# Altium footprint library sunalsorises.PcbLib: 7 footprints
Each footprint in its own frame and in the unit in brackets; x right, y up, seen from the top. Pads: shape width x height; smd on the part's side, far side on the other; paste and mask are expansions set on the pad; w line width, h text height; cw(c..) or ccw(c..) is an arc to the next point about the centre after c.
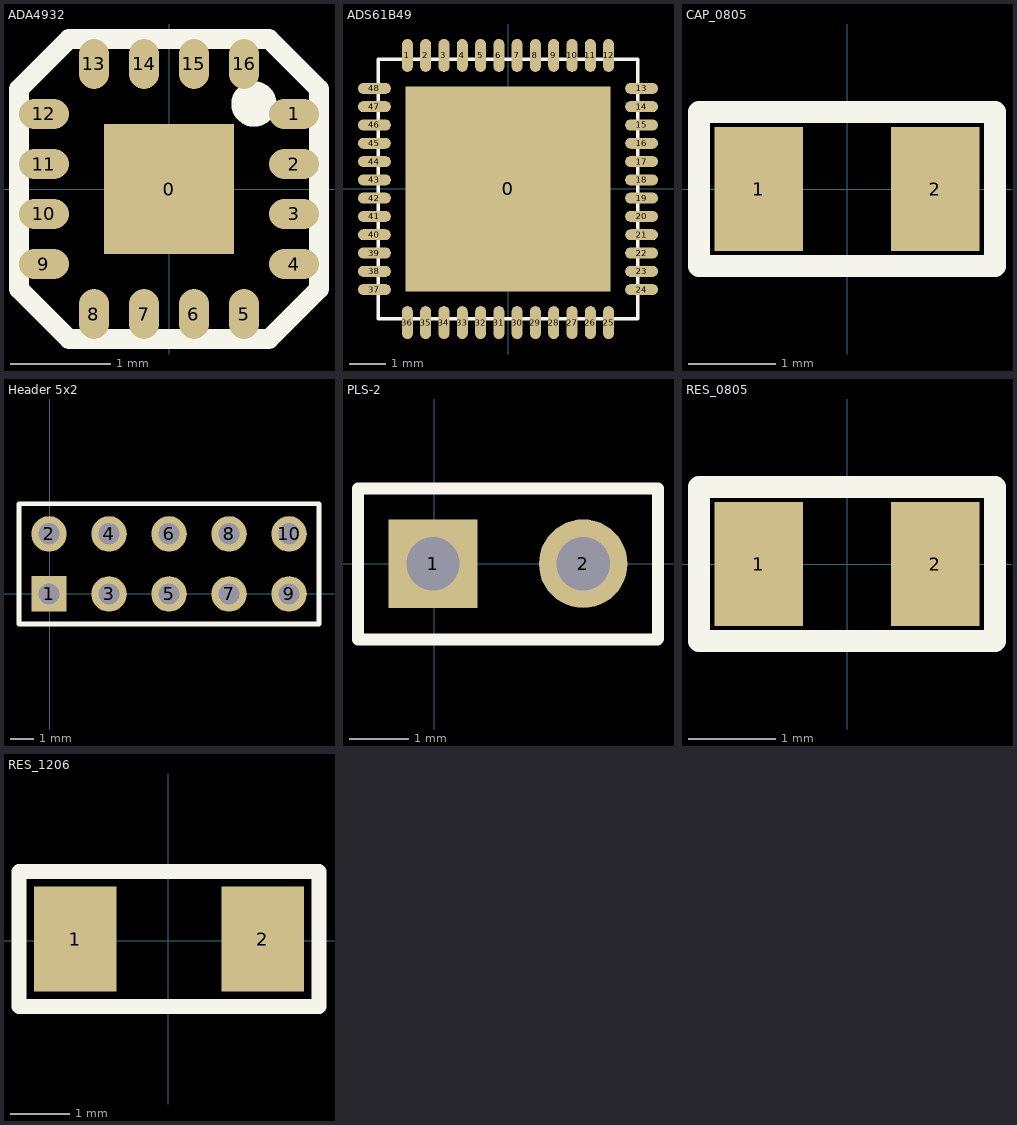
[diagram p0: the footprints below, top view; thin cyan lines are the x and y axes]

## ADA4932 [mm]
pads (17):
  rect 1.3x1.3 smd: 0(0,0)
  oval 0.5x0.3 smd: 1(1.25,0.75) 2(1.25,0.25) 3(1.25,-0.25) 4(1.25,-0.75) 9(-1.25,-0.75) 10(-1.25,-0.25) 11(-1.25,0.25) 12(-1.25,0.75)
  oval 0.3x0.5 smd: 5(0.75,-1.25) 6(0.25,-1.25) 7(-0.25,-1.25) 8(-0.75,-1.25) 13(-0.75,1.25) 14(-0.25,1.25) 15(0.25,1.25) 16(0.75,1.25)
Top Overlay:
  circle w0.254: c0.85,0.85 r0.1
  lines w0.2: -1.5,-1 -1,-1.5 1,-1.5 1.5,-1 1.5,1 1,1.5 -1,1.5 -1.5,1 -1.5,-1
3D body: height 0.9, standoff 0, extent -1.52,-1.52 1.52,1.52

## ADS61B49 [mm]
pads (49):
  rect 5.6x5.6 smd: 0(0,0)
  oval 0.3x0.9 smd: 1(-2.75,3.65) 2(-2.25,3.65) 3(-1.75,3.65) 4(-1.25,3.65) 5(-0.75,3.65) 6(-0.25,3.65) 7(0.25,3.65) 8(0.75,3.65) 9(1.25,3.65) 10(1.75,3.65) 11(2.25,3.65) 12(2.75,3.65) 25(2.75,-3.65) 26(2.25,-3.65) 27(1.75,-3.65) 28(1.25,-3.65) 29(0.75,-3.65) 30(0.25,-3.65) 31(-0.25,-3.65) 32(-0.75,-3.65) 33(-1.25,-3.65) 34(-1.75,-3.65) 35(-2.25,-3.65) 36(-2.75,-3.65)
  oval 0.9x0.3 smd: 13(3.65,2.75) 14(3.65,2.25) 15(3.65,1.75) 16(3.65,1.25) 17(3.65,0.75) 18(3.65,0.25) 19(3.65,-0.25) 20(3.65,-0.75) 21(3.65,-1.25) 22(3.65,-1.75) 23(3.65,-2.25) 24(3.65,-2.75) 37(-3.65,-2.75) 38(-3.65,-2.25) 39(-3.65,-1.75) 40(-3.65,-1.25) 41(-3.65,-0.75) 42(-3.65,-0.25) 43(-3.65,0.25) 44(-3.65,0.75) 45(-3.65,1.25) 46(-3.65,1.75) 47(-3.65,2.25) 48(-3.65,2.75)
Top Overlay:
  lines w0.1: -3.55,-3.55 -3.55,3.55 3.55,3.55 3.55,-3.55 -3.55,-3.55
3D body: height 0.83, standoff -0.02, extent -3.505,-3.505 3.505,3.5

## CAP_0805 [mil]
pads (2):
  rect 40x56 smd: 1(-40,0) 2(40,0)
Top Overlay:
  lines w10: -67,-35 67,-35 67,35 -67,35 -67,-35
3D body: height 23.62, standoff 0, extent -39.36,-24.6 39.38,24.61

## Header 5x2 [mm]
pads (10):
  rect 1.5x1.5 hole 0.9: 1(-0.025,0)
  round 1.5 hole 0.9: 2(-0.025,2.54) 3(2.515,0) 4(2.515,2.54) 5(5.055,0) 6(5.055,2.54) 7(7.595,0) 8(7.595,2.54) 9(10.135,0) 10(10.135,2.54)
Top Overlay:
  lines w0.2: 11.4,-1.28 11.4,3.8 ; 11.4,-1.27 -1.295,-1.27 -1.295,3.81 11.4,3.81
3D body: height 8.38, standoff -2.54, extent -1.275,-1.265 11.425,3.815

## PLS-2 [mm]
pads (2):
  rect 1.5x1.5 hole 0.9: 1(-0.02,0)
  round 1.5 hole 0.9: 2(2.52,0)
Top Overlay:
  lines w0.2: -1.29,-1.28 3.775,-1.28 ; -1.29,-1.27 -1.29,1.27 3.775,1.27 ; 3.785,-1.27 3.785,1.27
3D body: height 8.54, standoff -3, extent -1.29,-1.3 3.79,1.24

## RES_0805 [mil]
pads (2):
  rect 40x56 smd: 1(-40,0) 2(40,0)
Top Overlay:
  lines w10: -67,-35 -67,35 67,35 67,-35 -67,-35
3D body: height 29.92, standoff 0, extent -45.27,-26.57 45.28,26.58

## RES_1206 [mil]
pads (2):
  rect 55x70 smd: 1(-62.03,1.02) 2(62.97,1.02)
Top Overlay:
  lines w10: -99.53,-43.98 -99.53,46.02 100.47,46.02 100.47,-43.98 -99.53,-43.98
3D body: height 21.69, standoff 0, extent -62.99,-31.49 63,31.5